# Altium integrated library STMM-107-02-L-D.IntLib: 1 symbol
Pins are listed as number, name and electrical type; pins without a type are passive.

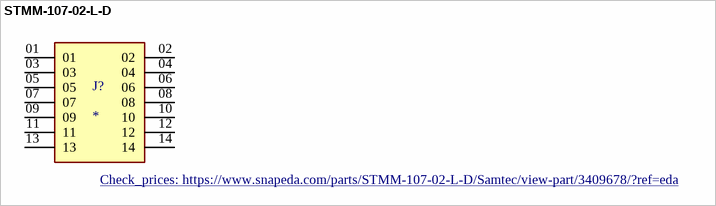
[diagram p0: symbol STMM-107-02-L-D]

## STMM-107-02-L-D
designator J?
Connector Header Surface Mount 14 position 0.079 (2.00mm); MP: STMM-107-02-L-D; MF: Samtec; SnapEDA_Link: https://www.snapeda.com/parts/STMM-107-02-L-D/Samtec/view-part/3409678/?ref=snap; Package: None; Value: *; Digi-Key_Part_Number: STMM-107-02-L-D-SM-TR-ND; Supplier 1: Mouser; Supplier Part Number 1: 200-STMM10702LD; Check_prices: https://www.snapeda.com/parts/STMM-107-02-L-D/Samtec/view-part/3409678/?ref=eda
footprint SAMTEC_STMM-107-02-L-D
pins: 01, 02, 03, 04, 05, 06, 07, 08, 09, 10, 11, 12, 13, 14